# EAGLE library part TLC2272A_D_8 (library SensorCape)
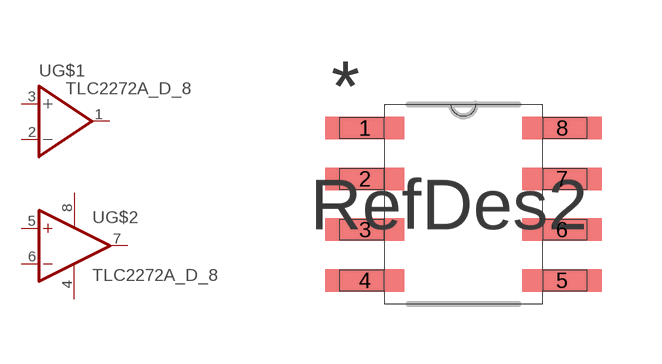
[diagram p8: symbol with the pads of D8; footprint D8]

Designator prefix U; gates G$1=OPAMP G$2=OPAMP+-

## TLC2272A_D_8  [D8]
1  G$1:OUT  out
2  G$1:-IN  in
3  G$1:+IN  in
4  G$2:V-  pwr
5  G$2:+IN  in
6  G$2:-IN  in
7  G$2:OUT  out
8  G$2:V+  pwr

## Footprint D8 (pad centres in mm)
smd 1.981 x 0.559: 1 -2.464,1.905; 2 -2.464,0.635; 3 -2.464,-0.635; 4 -2.464,-1.905; 5 2.464,-1.905; 6 2.464,-0.635; 7 2.464,0.635; 8 2.464,1.905